# Altium schematic symbol library P_DIODE_SH.SchLib: 1 symbol
Pins are listed as number, name and electrical type; pins without a type are passive.

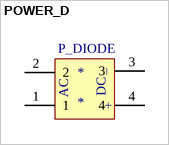
[diagram p0: symbol POWER_D]

## POWER_D
designator *
footprint P_DIODE
pins: 1, 2, 3, 4
text: P_DIODE; _; AC; DC; +